# EAGLE library part ADR435ARMZ (library ADR435ARMZ)
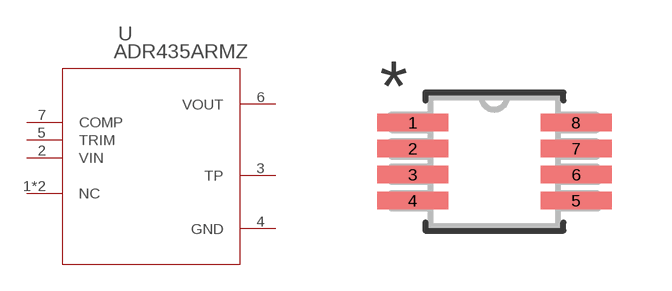
[diagram p0: symbol with the pads of RM_8; footprint RM_8]

Designator prefix -

## ADR435ARMZ  [RM_8]
1  NC  pas
2  VIN  pas
3  TP  pas
4  GND  pas
5  TRIM  pas
6  VOUT  pas
7  COMP  pas
8  NC  pas

## Footprint RM_8 (pad centres in mm)
smd 1.778 x 0.432: 1 -2.045,0.975; 2 -2.045,0.325; 3 -2.045,-0.325; 4 -2.045,-0.975; 5 2.045,-0.975; 6 2.045,-0.325; 7 2.045,0.325; 8 2.045,0.975